# Altium schematic symbol library Texas_Instruments.SchLib: 53 symbols
Pins are listed as number, name and electrical type; pins without a type are passive.

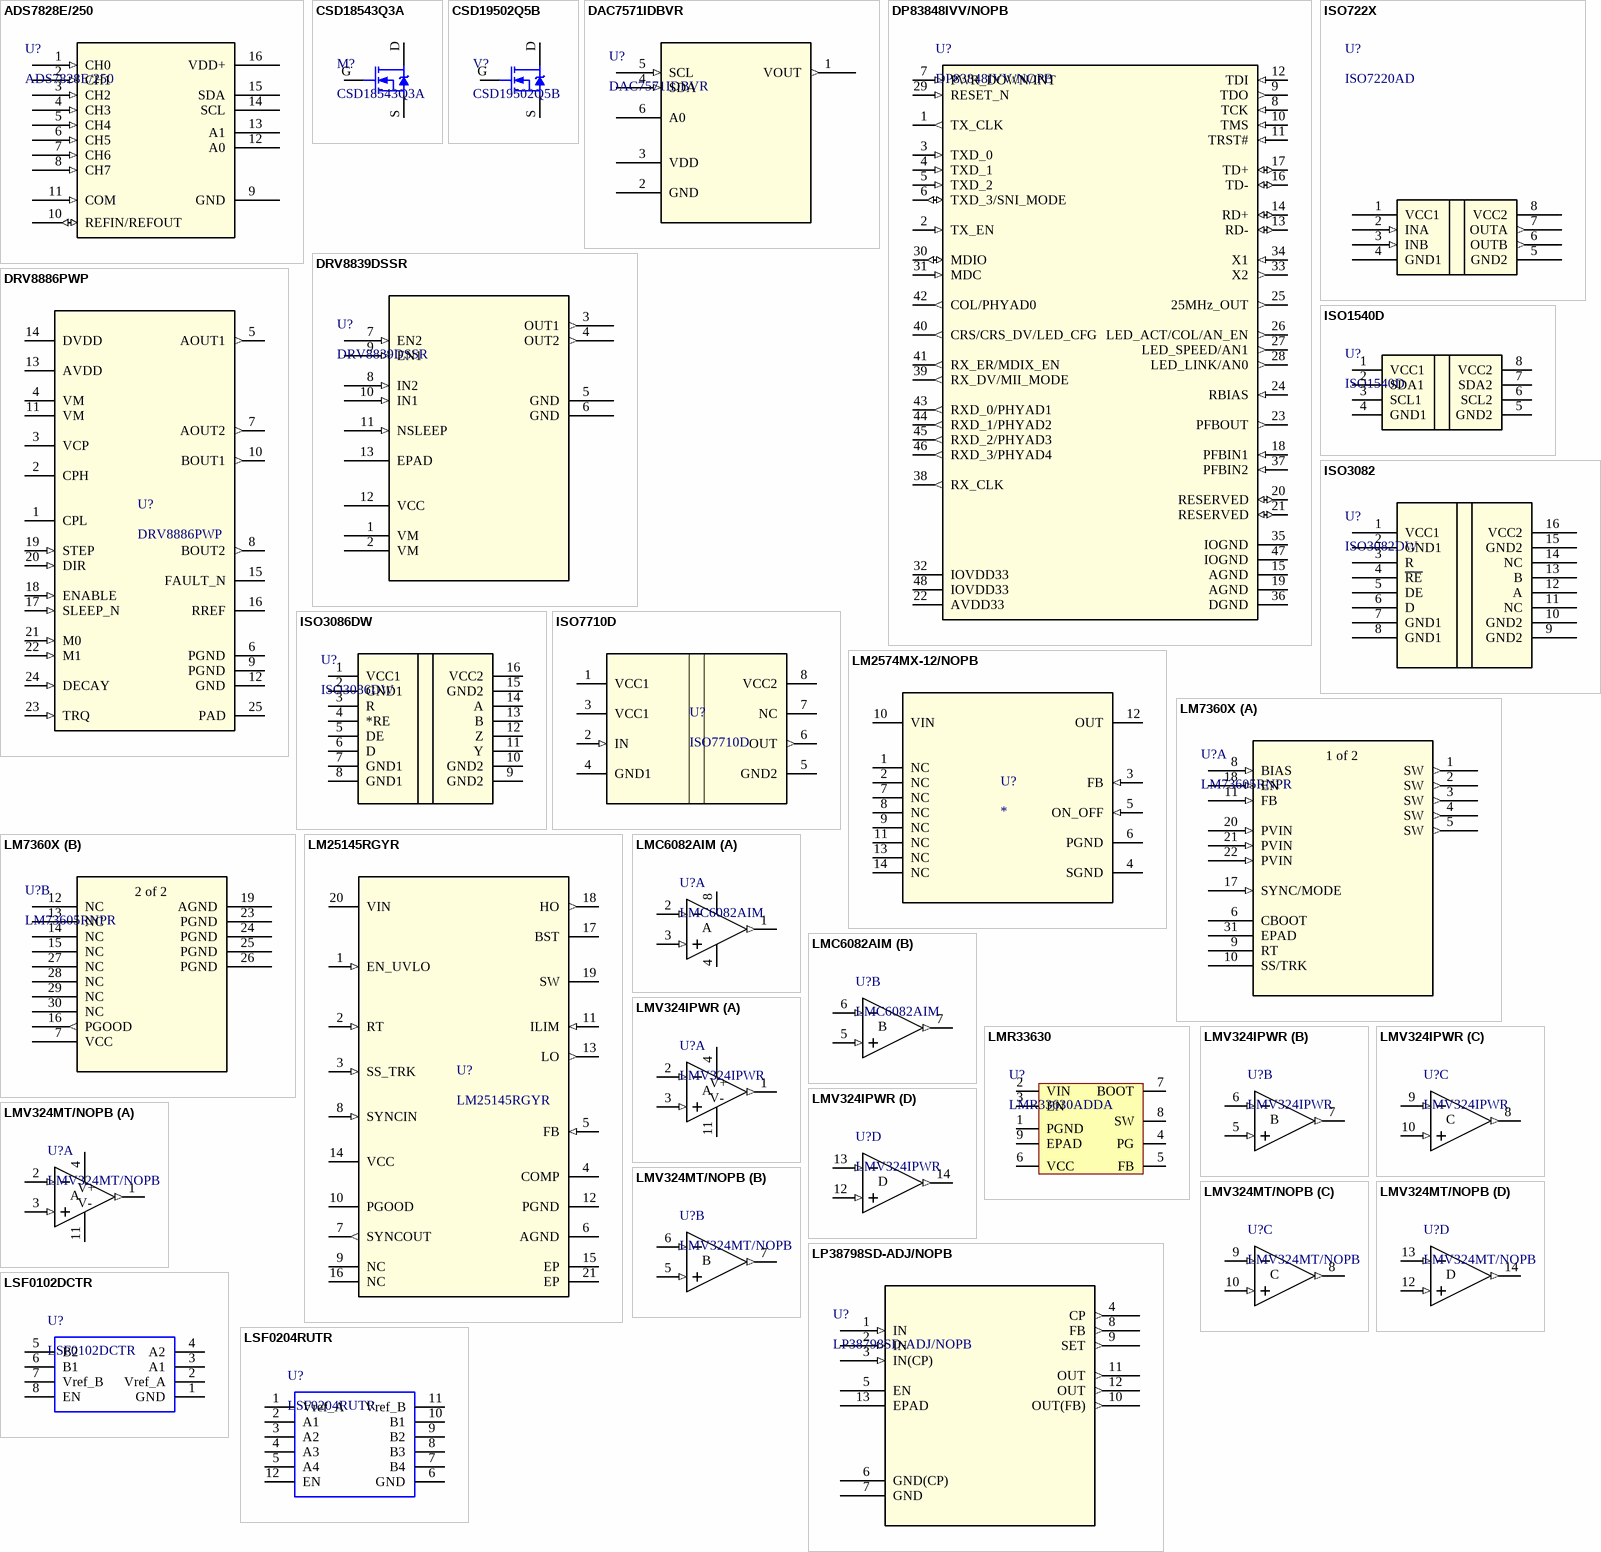
[diagram p0: symbols ADS7828E/250 to LSF0204RUTR]

## ADS7828E/250
designator U?
12-Bit, 8-Channel Sampling / ANALOG-TO-DIGITAL CONVERTER / with I2C™ Interface; Mfr_Name: Texas Instruments; Revised By: Z_xiao; Copyright: Copyright (C) 2022 Ultra Librarian. All rights reserved.; Manufacturer_Part_Number: ADS7828E/250; RefDes: RefDes; Type: DEV; ComponentLink1Description: Datasheet; ComponentLink1URL: https://www.ti.com.cn/cn/lit/ds/symlink/ads7828.pdf?ts=1654657696134&ref_url=https%253A%252F%252Fwww.ti.com.cn%252Fproduct%252Fzh-cn%252FADS7828%253FkeyMatch%253DADS7828%2526tisearch%253Dsearch-everything%2526usecase%253DGPN; Supplier 1: Digi-Key; Supplier 2: Mouser; Supplier 3: Digi-Key; Supplier Part Number 1: 296-12402-1-ND; Supplier Part Number 2: 595-ADS7828E/250G4; Supplier Part Number 3: 296-18368-ND
footprint PW16
footprint PW16-L
footprint PW16-M
pins: 1 CH0 (in), 2 CH1 (in), 3 CH2 (in), 4 CH3 (in), 5 CH4 (in), 6 CH5 (in), 7 CH6 (in), 8 CH7 (in), 9 GND (power), 10 REFIN/REFOUT (io), 11 COM (in), 12 A0, 13 A1, 14 SCL, 15 SDA, 16 VDD+ (power)

## CSD18543Q3A
designator M?
60-V N-Channel NexFET™ Power MOSFET; Revised By: Z_xiao; ComponentLink1Description: Datasheet
footprint DNH8
pins: D, G, S

## CSD19502Q5B
designator V?
80V N 通道 NexFET™ 功率金属氧化物半导体场效应晶体管 (MOSFET); Vendor: Texas Instruments; Revised By: Z_xiao; Manufacturer_Part_Number: CSD19502Q5B; Manufacturer_Name: Texas Instruments; RefDes: RefDes; TYPE: TYPE; Value: Value; ComponentLink1Description: Datasheet
footprint DNK8
pins: D, G, S

## DAC7571IDBVR
designator U?
+2.7 V to +5.5 V, I2C INTERFACE (RECEIVE ONLY), VOLTAGE OUTPUT,12-BIT DIGITAL-TO-ANALOG CONVERTER; Mfr_Name: Texas Instruments; Revised By: Z_xiao; Copyright: Copyright (C) 2021 Ultra Librarian. All rights reserved.; Manufacturer_Part_Number: DAC7571IDBVR; RefDes: RefDes; Type: DEV; ComponentLink1Description: Datasheet
footprint DBV6
footprint DBV6-L
footprint DBV6-M
pins: 1 VOUT (out), 2 GND (power), 3 VDD (power), 4 SDA (in), 5 SCL (in), 6 A0

## DP83848IVV/NOPB
designator U?
DP83848C/I/VYB/YB PHYTER™ QFP Single Port 10/100 Mb/s Ethernet / Physical Layer Transceiver; Mfr_Name: Texas Instruments; Manufacturer: NationalSemiconductor; PackageTopMarking: NSUZXYTTDP83848VVVBI; PowerWise: N; CompType: InterfaceIC; ComponentLink1DescBC: DP83848IDatasheet; ComponentLink2DescA4: DP83848IWebPage; ComponentLink3DescAC: VBH48APackagePage; Revised By: Z_xiao; Copyright: Copyright (C) 2022 Ultra Librarian. All rights reserved.; Manufacturer_Part_Number: DP83848IVV/NOPB; Published: 4-Dec-2008; DatasheetVersion: May-2008; PackageVersion: revEMay-2007; PackageReference: VBH48A; Publisher: AltiumLimited; PackageDescription: LQFP7x7x14mm48Lead05mmPitch; SUPPLIER_3: 1Farnell; SUPPLIER_2: PartNumb0C1286817; SUPPLIER_4: 2Farnell; Supplier: PartNumb0F1528380; PartNumber: DP83848IVV; RoHS: Y; PinCount: 48; ComponentLink3URL: http//wwwnationalcom/packaging/folders/vbh48ahtml; ComponentLink1URL: https://www.ti.com.cn/cn/lit/ds/symlink/dp83848i.pdf; Supplier 1: Mouser; Supplier Part Number 1: 926-DP83848IVV/NOPB; ComponentLink2URL: *; ComponentLink1Description: Datasheet
footprint LQFP48 7X7_L (48脚，体宽7x7mm，脚距0.5mm)
footprint LQFP48 7X7_M (48脚，体宽7x7mm，脚距0.5mm)
footprint LQFP48 7X7_N (48脚，体宽7x7mm，脚距0.5mm)
pins: 1 TX_CLK (out), 2 TX_EN (in), 3 TXD_0 (in), 4 TXD_1 (in), 5 TXD_2 (in), 6 TXD_3/SNI_MODE (io), 7 PWR_DOWN/INT (in), 8 TCK (in), 9 TDO (out), 10 TMS (in), 11 TRST# (in), 12 TDI (in), 13 RD- (io), 14 RD+ (io), 15 AGND (power), 16 TD- (io), 17 TD+ (io), 18 PFBIN1 (in), 19 AGND (power), 20 RESERVED (io), 21 RESERVED (io), 22 AVDD33 (power), 23 PFBOUT (out), 24 RBIAS (in), 25 25MHz_OUT (out), 26 LED_ACT/COL/AN_EN (out), 27 LED_SPEED/AN1 (out), 28 LED_LINK/AN0 (out), 29 RESET_N (in), 30 MDIO (io), 31 MDC (in), 32 IOVDD33 (power), 33 X2 (out), 34 X1 (in), 35 IOGND (power), 36 DGND (power), 37 PFBIN2 (in), 38 RX_CLK (out), 39 RX_DV/MII_MODE (out), 40 CRS/CRS_DV/LED_CFG (out), 41 RX_ER/MDIX_EN (out), 42 COL/PHYAD0 (out), 43 RXD_0/PHYAD1 (out), 44 RXD_1/PHYAD2 (out), 45 RXD_2/PHYAD3 (out), 46 RXD_3/PHYAD4 (out), 47 IOGND (power), 48 IOVDD33 (power)

## DRV8839DSSR
designator U?
双路½H 桥接电机驱动器; Vendor: Texas Instruments; Revised By: Z_xiao; Manufacturer_Part_Number: DRV8839DSSR; Copyright: Copyright (C) 2018 Accelerated Designs. All rights reserved; RefDes: RefDes; Type: DEV; ComponentLink1Description: Datasheet
footprint DSS12_P9X2
pins: 1 VM (power), 2 VM (power), 3 OUT1 (out), 4 OUT2 (out), 5 GND (power), 6 GND (power), 7 EN2 (in), 8 IN2 (in), 9 EN1 (in), 10 IN1 (in), 11 NSLEEP (in), 12 VCC (power), 13 EPAD

## DRV8886PWP
designator U?
集成电流检测功能的 2A 步进电机驱动器; PartNumber: DRV8886PWPR; Manufacturer: Texas Instruments; Revised By: Z_xiao; RefDes: RefDes; Type: DEV; Value: Value; Copyright: Copyright (C) 2018 Accelerated Designs. All rights reserved; ComponentLink1Description: Datasheet
footprint PWP0024B_NV_N
footprint PWP0024B_L
footprint PWP0024B_M
footprint PWP0024B_N
footprint PWP0024B_NV_M
footprint PWP0024B_NV_L
pins: 1 CPL, 2 CPH, 3 VCP, 4 VM (power), 5 AOUT1 (out), 6 PGND (power), 7 AOUT2 (out), 8 BOUT2 (out), 9 PGND (power), 10 BOUT1 (out), 11 VM (power), 12 GND (power), 13 AVDD (power), 14 DVDD (power), 15 FAULT_N (oc), 16 RREF, 17 SLEEP_N (in), 18 ENABLE (in), 19 STEP (in), 20 DIR (in), 21 M0 (in), 22 M1 (in), 23 TRQ (in), 24 DECAY (in), 25 PAD (power)

## ISO722X
designator U?, comment ISO7220AD
ISO722x 双通道数字隔离器; Mfr_Name: Texas Instruments; Revised By: Z_xiao; Copyright: Copyright (C) 2021 Ultra Librarian. All rights reserved.; Manufacturer_Part_Number: ISO7220AD; RefDes: RefDes; Type: DEV; ComponentLink1Description: Datasheet
footprint D8
footprint D8-L
footprint D8-M
pins: 1 VCC1 (power), 2 INA (in), 3 INB (in), 4 GND1 (power), 5 GND2 (power), 6 OUTB (out), 7 OUTA (out), 8 VCC2 (power)

## ISO1540D
designator U?
ISO154x 低功耗双向I2C 隔离器; Mfr_Name: Texas Instruments; PartNumber: ISO1540DR; CompType: IC; Revised By: Z_xiao; Type: DEV; RefDes: RefDes; Copyright: Copyright (C) 2021 Ultra Librarian. All rights reserved.; Manufacturer_Part_Number: ISO1540D; Alternate_PartNumber: ISO1540D; PackageReference: D0008A; MountType: SMT; RoHS: Y; Manufacturer: Texas Instruments; ComponentLink1Description: Datasheet
footprint D0008A_N
footprint D0008A_M
footprint D0008A_L
pins: 1 VCC1 (power), 2 SDA1, 3 SCL1, 4 GND1 (power), 5 GND2 (power), 6 SCL2, 7 SDA2, 8 VCC2 (power)

## ISO3082
designator U?, comment ISO3082DW
ISO308x Isolated 5-V Full- and Half-Duplex RS-485 Transceivers; Mfr_Name: Texas Instruments; Revised By: Z_xiao; Copyright: Copyright (C) 2021 Ultra Librarian. All rights reserved.; Manufacturer_Part_Number: ISO3082DW; RefDes: RefDes; Type: DEV; ComponentLink1Description: Datasheet; Supplier 1: Mouser; Supplier 2: Mouser; Supplier 3: Digi-Key; Supplier 4: Mouser; Supplier 5: Mouser; Supplier Part Number 5: 595-ISO3086DW; Supplier Part Number 4: 595-ISO3082DWG4; Supplier Part Number 3: 296-52646-1-ND; Supplier Part Number 2: 595-ISO3082DWR; Supplier Part Number 1: 595-ISO3082DW; ComponentLink1URL: https://www.ti.com.cn/cn/lit/ds/symlink/iso3082.pdf?ts=1654732171563&ref_url=https%253A%252F%252Fwww.ti.com.cn%252Fproduct%252Fcn%252FISO3082
footprint DW16
footprint DW16-L
footprint DW16-M
pins: 1 VCC1 (power), 2 GND1 (power), 3 R, 4 ~{RE}, 5 DE, 6 D, 7 GND1 (power), 8 GND1 (power), 9 GND2 (power), 10 GND2 (power), 11 NC, 12 A, 13 B, 14 NC, 15 GND2 (power), 16 VCC2 (power)

## ISO3086DW
designator U?
ISO308x Isolated 5-V Full- and Half-Duplex RS-485 Transceivers; Mfr_Name: Texas Instruments; Revised By: Z_xiao; Copyright: Copyright (C) 2022 Ultra Librarian. All rights reserved.; Manufacturer_Part_Number: ISO3086DW; RefDes: RefDes; Type: DEV; ComponentLink1Description: Datasheet; ComponentLink1URL: https://www.ti.com.cn/cn/lit/ds/symlink/iso3086.pdf?ts=1654743177672&ref_url=https%253A%252F%252Fwww.ti.com.cn%252Fproduct%252Fcn%252FISO3086; Supplier 1: Mouser; Supplier 2: Mouser; Supplier 3: Mouser; Supplier 4: Mouser; Supplier 5: Mouser; Supplier Part Number 1: 595-ISO3086DW; Supplier Part Number 2: 595-ISO3086DWR; Supplier Part Number 3: 595-ISO3086DWG4; Supplier Part Number 4: 595-ISO3086DWRG4; Supplier Part Number 5: 595-ISO3080DW
footprint DW16
footprint DW16-L
footprint DW16-M
pins: 1 VCC1 (power), 2 GND1 (power), 3 R, 4 *RE, 5 DE, 6 D, 7 GND1 (power), 8 GND1 (power), 9 GND2 (power), 10 GND2 (power), 11 Y, 12 Z, 13 B, 14 A, 15 GND2 (power), 16 VCC2 (power)

## ISO7710D
designator U?
EMC 性能优异的ISO7710 高速单通道增强型数字隔离器; PartNumber: ISO7710DR; Manufacturer: Texas Instruments; Revised By: Z_xiao; RefDes: RefDes; Type: DEV; Value: Value; Copyright: Copyright (C) 2021 Accelerated Designs. All rights reserved; ComponentLink1Description: Datasheet
footprint D0008B_N
footprint D0008B_HV
footprint D0008B_L
footprint D0008B_M
pins: 1 VCC1 (power), 2 IN (in), 3 VCC1 (power), 4 GND1 (power), 5 GND2 (power), 6 OUT (out), 7 NC, 8 VCC2 (power)

## LM2574MX-12/NOPB
designator U?
LM2574x SIMPLE SWITCHER® 0.5A 降压稳压器; PartNumber: LM2574MX-12/NOPB; Manufacturer: Texas Instruments; Revised By: Z_xiao; RefDes: RefDes; Type: DEV; Value: Value; Copyright: Copyright (C) 2021 Accelerated Designs. All rights reserved; ComponentLink1Description: DataSheet
footprint NPA0014B_N
footprint NPA0014B_M
footprint NPA0014B_L
pins: 1 NC, 2 NC, 3 FB (in), 4 SGND (power), 5 ON_OFF (in), 6 PGND (power), 7 NC, 8 NC, 9 NC, 10 VIN (power), 11 NC, 12 OUT (power), 13 NC, 14 NC

## LM7360X
designator U?, comment LM73605RNPR
3.5V 至 36V、5A 或 6A 同步 / 降压转换器; Manufacturer_Part_Number: LM73606RNPR; Vendor: Texas Instruments; SourceLibrary: TI_2019-05-21; Revised By: Z_xiao; Copyright: Copyright (C) 2018 Accelerated Designs. All rights reserved; RefDes: RefDes; Type: DEV; ComponentLink1Description: DataSheet
footprint RNP30_TEX-M
footprint RNP30_TEX-L
footprint RNP30_TEX
part A pins: 1 SW (out), 2 SW (out), 3 SW (out), 4 SW (out), 5 SW (out), 6 CBOOT, 8 BIAS (in), 9 RT, 10 SS/TRK, 11 FB (in), 17 SYNC/MODE (in), 18 EN (in), 20 PVIN (in), 21 PVIN (in), 22 PVIN (in), 31 EPAD
part B pins: 7 VCC (power), 12 NC, 13 NC, 14 NC, 15 NC, 16 PGOOD (out), 19 AGND (power), 23 PGND (power), 24 PGND (power), 25 PGND (power), 26 PGND (power), 27 NC, 28 NC, 29 NC, 30 NC
part A text: 1 of 2
part B text: 2 of 2

## LM25145RGYR
designator U?
具有宽占空比范围的 6V 至 42V 同步降压直流/直流控制器; Manufacturer: Texas Instruments; Revised By: Z_xiao; PartNumber: LM25145RGYR; RefDes: RefDes; TYPE: TYPE; Value: Value; Manufacturer_Part_Number: LM25145RGYR; Manufacturer_Name: Texas Instruments; ComponentLink1Description: Datasheet
footprint (VQFN(RGY)20)(RGY0020B)
pins: 1 EN_UVLO (in), 2 RT (in), 3 SS_TRK (in), 4 COMP, 5 FB (in), 6 AGND (power), 7 SYNCOUT (out), 8 SYNCIN (in), 9 NC, 10 PGOOD (oc), 11 ILIM (in), 12 PGND (power), 13 LO (out), 14 VCC (power), 15 EP (power), 16 NC, 17 BST, 18 HO (out), 19 SW (power), 20 VIN (power), 21 EP (power)

## LMC6082AIM
designator U?
LMC6082 Precision CMOS Dual Operational Amplifier; Mfr_Name: Texas Instruments; Manufacturer: NationalSemiconductor; Characteristics: LMC6082AIMPrecisionCMOSDualR-ROutputOpAmp; CompType: OpAmpIC; TaMin_C: -400; TaMax_C: 850; ComponentLink1DescBC: LMC6082Datasheet; ComponentLink2DescA4: LMC6082WebPage; ComponentLink3DescAC: M08APackageWebPage; Revised By: Z_xiao; Copyright: Copyright (C) 2021 Ultra Librarian. All rights reserved.; Manufacturer_Part_Number: LMC6082AIM; SymbolVersion: 2008-07-09; PartNumber: LMC6082AIM; PackageDescription: 8LeadSOIC; PackageReference: M08A_L; RoHS: O; ComponentLink1URL: http//wwwnationalcom/ds/LM/LMC6082pdf; ComponentLink2URL: http//wwwnationalcom/pf/LM/LMC6082html; ComponentLink3URL: http//wwwnationalcom/packaging/folders/m08ahtml; Version: B1608; LatestRevisionDate: 2009-03-16; LatestRevisionNote: MassUpdate; Publisher: NationalSemiconductor; Published: 2009-03-16; ComponentLink1Description: Datasheet
footprint SOP8_L (5*6*1.8mm（长宽高）)
footprint SOP8_M (5*6*1.8mm（长宽高）)
footprint SOP8_N (5*6*1.8mm（长宽高）)
part A pins: 1 OUT (out), 2 IN- (in), 3 IN+ (in), 4, 8
part B pins: 5 IN+ (in), 6 IN- (in), 7 OUT (out)
part A text: A
part B text: B

## LMR33630
designator U?, comment LMR33630ADDA
LMR33630 SIMPLE SWITCHER® 3.8V 至 36V、 3A / 同步降压转换器; Revised By: Z_xiao; ComponentLink1Description: DataSheet
footprint ESOP8_N (5*6*1.8mm（长宽高）)
footprint ESOP8_M (5*6*1.8mm（长宽高）)
footprint ESOP8_L (5*6*1.8mm（长宽高）)
pins: 1 PGND, 2 VIN, 3 EN, 4 PG, 5 FB, 6 VCC, 7 BOOT, 8 SW, 9 EPAD

## LMV324IPWR
designator U?
LMV3xx Low-Voltage Rail-to-Rail Output Operational Amplifier; Mfr_Name: Texas Instruments; Revised By: Z_xiao; Copyright: Copyright (C) 2022 Ultra Librarian. All rights reserved.; Manufacturer_Part_Number: LMV324IPWR; RefDes: RefDes; Type: DEV; ComponentLink1Description: Datasheet; ComponentLink1URL: https://www.ti.com.cn/cn/lit/ds/symlink/lmv324.pdf?ts=1655447202836&ref_url=https%253A%252F%252Fwww.ti.com.cn%252Fsitesearch%252Fzh-cn%252Fdocs%252Funiversalsearch.tsp%253FlangPref%253Dzh-CN%2526searchTerm%253DLMV324IDR%2526nr%253D11
footprint PW14
footprint PW14-L
footprint PW14-M
part A pins: 1 OUT (out), 2 IN- (in), 3 IN+ (in), 4 VDD, 11 VEE
part B pins: 5 IN+ (in), 6 IN- (in), 7 OUT (out)
part C pins: 8 OUT (out), 9 IN- (in), 10 IN+ (in)
part D pins: 12 IN+ (in), 13 IN- (in), 14 OUT (out)
part A text: V+; A; V-
part B text: B
part C text: C
part D text: D

## LMV324MT/NOPB
designator U?
LMV3xx-N/-Q1 单通道、双通道和四通道通用低电压轨至轨输出运算放大器; Mfr_Name: Texas Instruments; Manufacturer: NationalSemiconductor; Characteristics: LMV324MTGeneralPurposeLowVoltageR-ROut1MHzQuadOpAmp; CompType: OpAmpIC; TaMin_C: -400; TaMax_C: 850; ComponentLink1DescBC: LMV324Datasheet; ComponentLink2DescA4: LMV324WebPage; ComponentLink3DescAC: MTC14PackageWebPage; Revised By: Z_xiao; Copyright: Copyright (C) 2022 Ultra Librarian. All rights reserved.; Manufacturer_Part_Number: LMV324MT/NOPB; RefDes: RefDes; Type: DEV; SymbolVersion: 2008-07-09; PartNumber: LMV324MT; PackageDescription: 14LeadTSSOP; PackageReference: MTC14_L; RoHS: O; ComponentLink1URL: https://www.ti.com.cn/cn/lit/ds/symlink/lmv324-n.pdf?ts=1655100474900&ref_url=https%253A%252F%252Fwww.ti.com.cn%252Fproduct%252Fcn%252FLMV324-N%252Fpart-details%252FLMV324M%252FNOPB%253FkeyMatch%253DLMV324M; ComponentLink2URL: http//wwwnationalcom/pf/LM/LMV324html; ComponentLink3URL: http//wwwnationalcom/packaging/folders/mtc14html; Version: B1608; LatestRevisionDate: 2009-03-16; LatestRevisionNote: MassUpdate; Publisher: NationalSemiconductor; Published: 2009-03-16; ComponentLink1Description: Datasheet
footprint MTC14
footprint MTC14-L
footprint MTC14-M
part A pins: 1 OUT (out), 2 IN- (in), 3 IN+ (in), 4 VDD, 11 VEE
part B pins: 5 IN+ (in), 6 IN- (in), 7 OUT (out)
part C pins: 8 OUT (out), 9 IN- (in), 10 IN+ (in)
part D pins: 12 IN+ (in), 13 IN- (in), 14 OUT (out)
part A text: V+; A; V-
part B text: B
part C text: C
part D text: D

## LP38798SD-ADJ/NOPB
designator U?
LP38798 800mA 超低噪声、高PSRR LDO; SourceLibrary: TI_2015-1-5; Built_By: EMA_UL_Team; Vendor: Texas Instruments; Manufacturer_Part_Number: LP38798SD-ADJ/NOPB; Copyright: Copyright (C) 2021 Accelerated Designs. All rights reserved; RefDes: RefDes; Type: DEV
footprint DNT12_TEX
footprint DNT12_TEX-L
footprint DNT12_TEX-M
pins: 1 IN (in), 2 IN (in), 3 IN(CP) (in), 4 CP (out), 5 EN, 6 GND(CP) (power), 7 GND (power), 8 FB (out), 9 SET (out), 10 OUT(FB) (out), 11 OUT (out), 12 OUT (out), 13 EPAD

## LSF0102DCTR
designator U?
适用于开漏和推挽应用的 LSF010x 1/2/8 通道汽车双向多电压电平转换器; Mfr_Name: Texas Instruments; Revised By: Z_xiao; Type: DEV; RefDes: RefDes; Copyright: Copyright (C) 2022 Ultra Librarian. All rights reserved.; Manufacturer_Part_Number: LSF0102DCTR; ComponentLink1Description: Datasheet; ComponentLink1URL: https://www.ti.com.cn/cn/lit/ds/symlink/lsf0102.pdf?ts=1654830341801&ref_url=https%253A%252F%252Fwww.ti.com.cn%252Fproduct%252Fzh-cn%252FLSF0102%253FkeyMatch%253DLSF0102%2526tisearch%253Dsearch-everything%2526usecase%253DGPN; Supplier 1: Arrow Electronics; Supplier Part Number 1: LSF0102DCTR
footprint DCT0008A_N
footprint DCT0008A_M
footprint DCT0008A_L
pins: 1 GND, 2 Vref_A, 3 A1, 4 A2, 5 B2, 6 B1, 7 Vref_B, 8 EN

## LSF0204RUTR
designator U?
LSF0204x 适用于漏极开路和推挽应用的 4 位双向多电压电平转换器; Mfr_Name: Texas Instruments; CompType: IC; Revised By: Z_xiao; Type: DEV; RefDes: RefDes; Copyright: Copyright (C) 2022 Ultra Librarian. All rights reserved.; Manufacturer_Part_Number: LSF0204RUTR; Application_BuildNumber: *; PartNumber: LSF0204RUTR; PackageReference: RUT0012A; MountType: SMT; RoHS: Y; Manufacturer: Texas Instruments; ComponentLink1Description: Datasheet; ComponentLink1URL: https://www.ti.com.cn/cn/lit/ds/symlink/lsf0204.pdf?ts=1654828349105&ref_url=https%253A%252F%252Fwww.ti.com.cn%252Fproduct%252Fzh-cn%252FLSF0204%253FkeyMatch%253DLSF0204%2526tisearch%253Dsearch-everything%2526usecase%253DGPN; Supplier 1: Mouser; Supplier Part Number 1: 595-LSF0204RUTR
footprint RUT0012A
pins: 1 Vref_A, 2 A1, 3 A2, 4 A3, 5 A4, 6 GND, 7 B4, 8 B3, 9 B2, 10 B1, 11 Vref_B, 12 EN

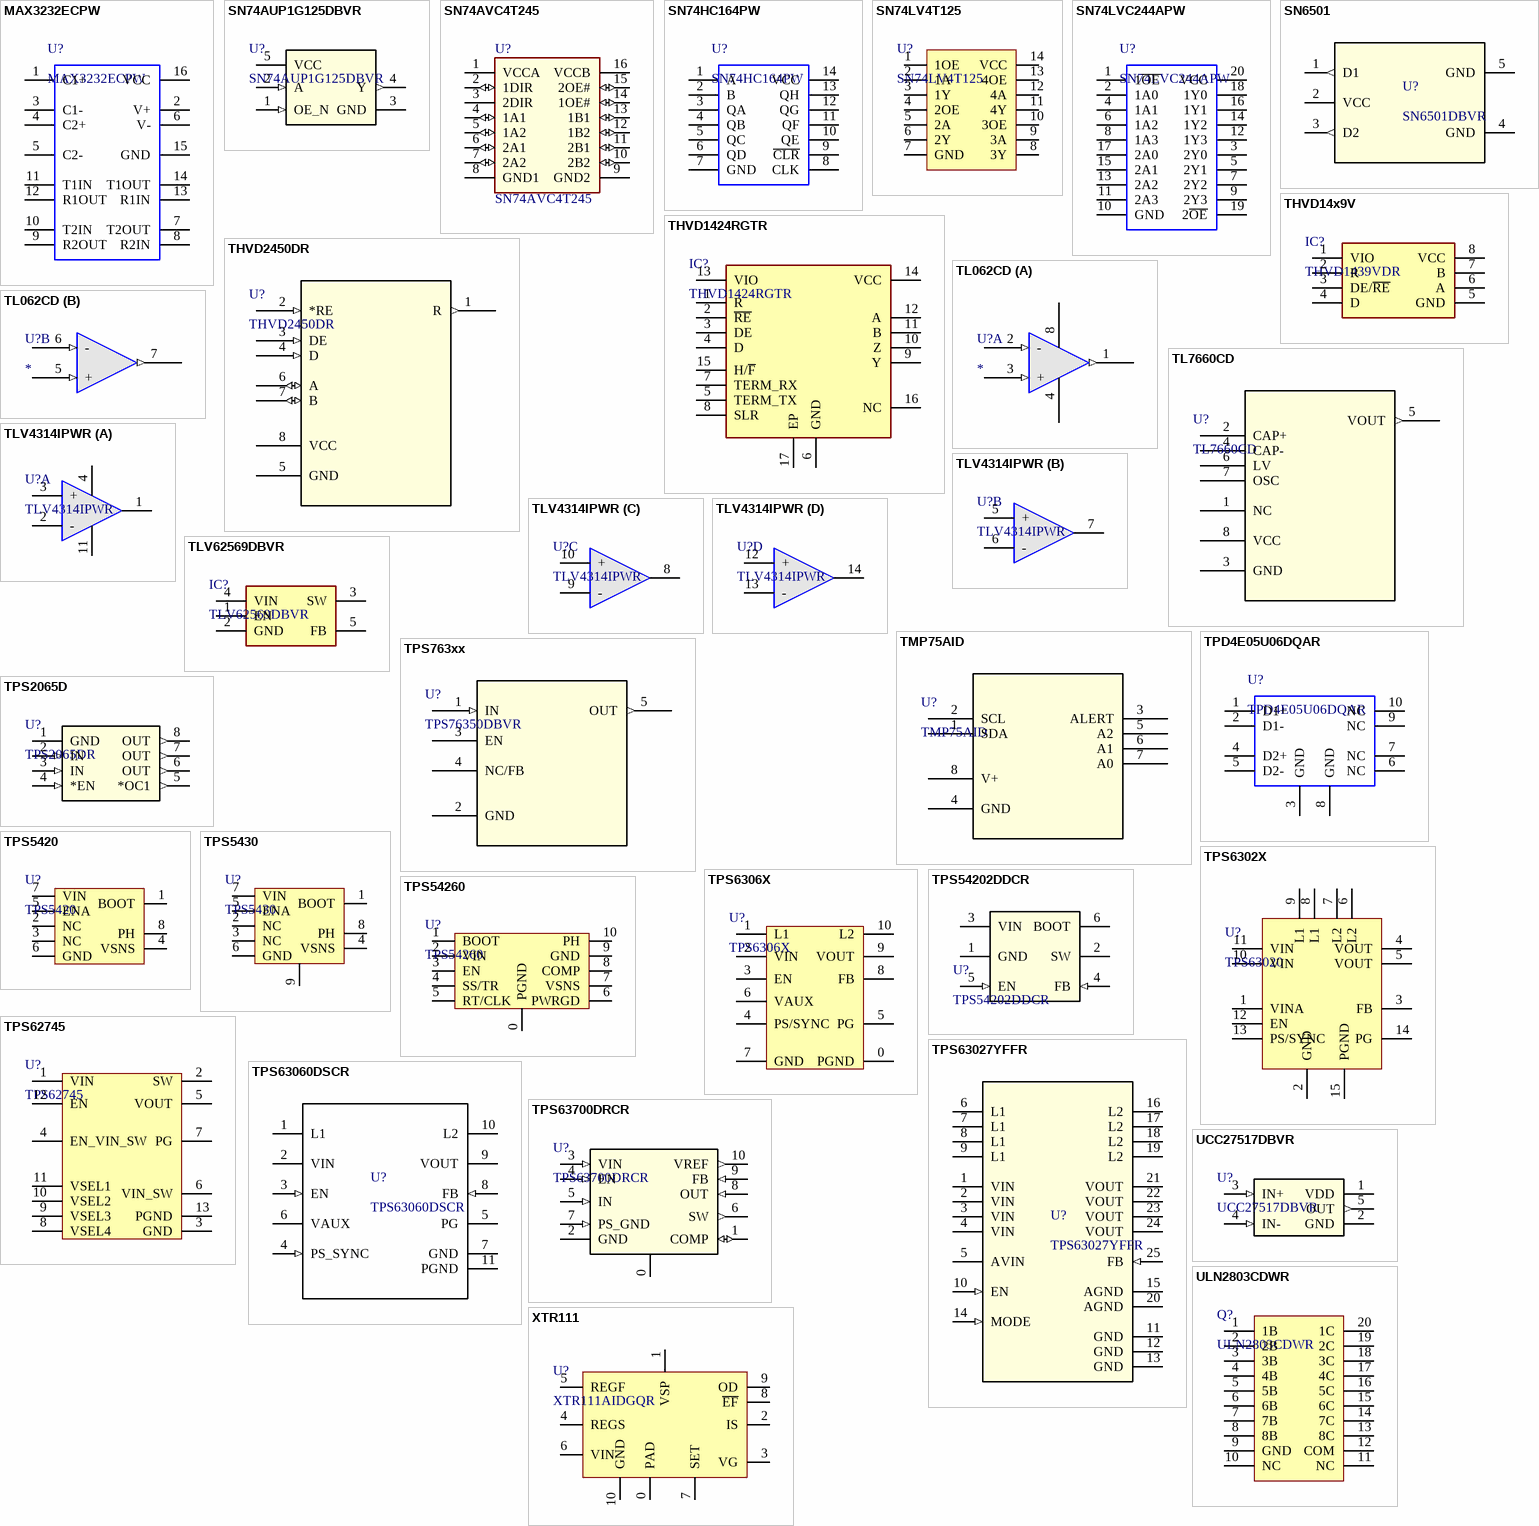
[diagram p1: symbols MAX3232ECPW to XTR111]

## MAX3232ECPW
designator U?
具有 ±15kV IEC ESD 保护功能的 MAX3232E 3V 至 5.5V 多通道 RS-232 线路驱动器和接收器; Mfr_Name: Texas Instruments; Revised By: Z_xiao; Copyright: Copyright (C) 2022 Ultra Librarian. All rights reserved.; Manufacturer_Part_Number: MAX3232ECPW; RefDes: RefDes; Type: DEV; ComponentLink1Description: Datasheet; ComponentLink1URL: https://www.ti.com.cn/cn/lit/ds/symlink/max3232e.pdf?ts=1655125486273&ref_url=https%253A%252F%252Fwww.ti.com.cn%252Fproduct%252Fcn%252FMAX3232E%253FkeyMatch%253D3232
footprint PW16
footprint PW16-L
footprint PW16-M
pins: 1 C1+, 2 V+, 3 C1-, 4 C2+, 5 C2-, 6 V-, 7 T2OUT, 8 R2IN, 9 R2OUT, 10 T2IN, 11 T1IN, 12 R1OUT, 13 R1IN, 14 T1OUT, 15 GND, 16 VCC

## SN74AUP1G125DBVR
designator U?
Single 0.8-V to 3.6-V low power buffer with 3-state outputs; Mfr_Name: Texas Instruments; Alternate_PartNumber: SN74AUP1G125DBVT; CompType: IC; Revised By: Z_xiao; Type: DEV; RefDes: RefDes; Copyright: Copyright (C) 2023 Ultra Librarian. All rights reserved.; Manufacturer_Part_Number: SN74AUP1G125DBVR; PartNumber: SN74AUP1G125DBVR; PackageReference: DBV0005A; MountType: SMT; RoHS: Y; Manufacturer: Texas Instruments; Supplier 1: Mouser; Supplier Part Number 1: 595-SN74AUP1G125DBVR
footprint DBV0005A_N
pins: 1 OE_N (in), 2 A (in), 3 GND (power), 4 Y (out), 5 VCC (power)

## SN74AVC4T245
designator U?
具有可配置电压转换和三态输出的 4 位双电源总线收发器; Revised By: Z_xiao; ComponentLink1Description: Datasheet
footprint SOP16_L (10.3*6.2*1.8mm（长宽高）)
footprint SOP16_M (10.3*6.2*1.8mm（长宽高）)
footprint SOP16_N (10.3*6.2*1.8mm（长宽高）)
pins: 1 VCCA (power), 2 1DIR (io), 3 2DIR, 4 1A1 (io), 5 1A2 (io), 6 2A1 (io), 7 2A2 (io), 8 GND1, 9 GND2, 10 2B2 (io), 11 2B1 (io), 12 1B2 (io), 13 1B1 (io), 14 1OE# (io), 15 2OE# (io), 16 VCCB (power)

## SN74HC164PW
designator U?
SNx4HC164 8-Bit Parallel-Out Serial Shift Registers; Mfr_Name: Texas Instruments; Revised By: Z_xiao; Copyright: Copyright (C) 2022 Ultra Librarian. All rights reserved.; Manufacturer_Part_Number: SN74HC164PW; RefDes: RefDes; Type: DEV; ComponentLink1Description: Datasheet; ComponentLink1URL: https://www.ti.com.cn/cn/lit/ds/symlink/sn74hc164.pdf?ts=1654800931129
footprint PW14
footprint PW14-L
footprint PW14-M
pins: 1 A, 2 B, 3 QA, 4 QB, 5 QC, 6 QD, 7 GND, 8 CLK, 9 ~{CLR}, 10 QE, 11 QF, 12 QG, 13 QH, 14 VCC

## SN74LV4T125
designator U?
单电源四缓冲区转换器门，具有三态输出CMOS 逻辑电平转换器; Revised By: Z_xiao; ComponentLink1Description: Datasheet
footprint S-PVQFN-N14
footprint TSSOP14_L (5*6.4*1mm（长宽高）)
footprint TSSOP14_M (5*6.4*1mm（长宽高）)
footprint TSSOP14_N (5*6.4*1mm（长宽高）)
pins: 1 1OE, 2 1A, 3 1Y, 4 2OE, 5 2A, 6 2Y, 7 GND, 8 3Y, 9 3A, 10 3OE, 11 4Y, 12 4A, 13 4OE, 14 VCC

## SN74LVC244APW
designator U?
SN74LVC244A 具有三态输出的八路缓冲器或驱动器; Mfr_Name: Texas Instruments; Revised By: Z_xiao; Copyright: Copyright (C) 2022 Ultra Librarian. All rights reserved.; Manufacturer_Part_Number: SN74LVC244APW; RefDes: RefDes; Type: DEV; ComponentLink1Description: Datasheet; ComponentLink1URL: https://www.ti.com.cn/cn/lit/ds/symlink/sn74lvc244a.pdf?ts=1654844630213&ref_url=https%253A%252F%252Fwww.ti.com.cn%252Fproduct%252Fzh-cn%252FSN74LVC244A%253FkeyMatch%253DSN74LVC244A%2526tisearch%253Dsearch-everything%2526usecase%253DGPN
footprint PW20
footprint PW20-L
footprint PW20-M
pins: 1 1~{OE}, 2 1A0, 3 2Y0, 4 1A1, 5 2Y1, 6 1A2, 7 2Y2, 8 1A3, 9 2Y3, 10 GND, 11 2A3, 12 1Y3, 13 2A2, 14 1Y2, 15 2A1, 16 1Y1, 17 2A0, 18 1Y0, 19 2~{OE}, 20 VCC

## SN6501
designator U?, comment SN6501DBVR
SN6501 用于隔离电源的变压器驱动器; Mfr_Name: Texas Instruments; Alternate_PartNumber: SN6501DBVT; CompType: IC; Type: DEV; RefDes: RefDes; Copyright: Copyright (C) 2021 Ultra Librarian. All rights reserved.; Manufacturer_Part_Number: SN6501DBVR; PartNumber: SN6501DBVR; PackageReference: DBV0005A; MountType: SMT; RoHS: Y; Manufacturer: Texas Instruments
footprint DBV0005A_N
footprint DBV0005A_M
footprint DBV0005A_L
pins: 1 D1 (out), 2 VCC (power), 3 D2 (out), 4 GND (power), 5 GND (power)

## THVD14x9V
designator IC?, comment THVD1439VDR
THVD14x9x 具有 4kV 浪涌保护功能和 1.8V VIO 的 3V 至 5.5V RS-485 收发器; Manufacturer_Name: Texas Instruments; Datasheet Link: https://www.ti.com/lit/ds/symlink/thvd1439.pdf?ts=1633978341702&ref_url=https%253A%252F%252Fwww.ti.com%252Fproduct%252FTHVD1439; Height: 1.75mm; Manufacturer_Part_Number: THVD1439VDR; Mouser Part Number: 595-THVD1439VDR; Mouser Price/Stock: https://www.mouser.co.uk/ProductDetail/Texas-Instruments/THVD1439VDR?qs=A6eO%252BMLsxmTh8OKfR5%2FZSA%3D%3D; Arrow Part Number: THVD1439VDR; Arrow Price/Stock: https://www.arrow.com/en/products/thvd1439vdr/texas-instruments?region=nac
footprint SOP8_L (5*6*1.8mm（长宽高）)
footprint SOP8_M (5*6*1.8mm（长宽高）)
footprint SOP8_N (5*6*1.8mm（长宽高）)
pins: 1 VIO, 2 R, 3 DE/~{RE}, 4 D, 5 GND, 6 A, 7 B, 8 VCC

## THVD1424RGTR
designator IC?
THVD1424 3-V to 5.5-V RS-485 Transceiver With Slew Rate Control, Integrated / 120-Ohm Switchable Termination Resistor and Duplex Switching; Manufacturer_Name: Texas Instruments; Datasheet Link: https://www.ti.com/lit/ds/symlink/thvd1424.pdf?ts=1680263926066&ref_url=https%253A%252F%252Fwww.ti.com%252Fproduct%252FTHVD1424%252Fpart-details%252FTHVD1424RGTR; Height: 1mm; Manufacturer_Part_Number: THVD1424RGTR; Mouser Part Number: 595-THVD1424RGTR; Mouser Price/Stock: https://www.mouser.co.uk/ProductDetail/Texas-Instruments/THVD1424RGTR?qs=Y0Uzf4wQF3mE4SAwEC4Vhg%3D%3D; Arrow Part Number: THVD1424RGTR; Arrow Price/Stock: https://www.arrow.com/en/products/thvd1424rgtr/texas-instruments?utm_currency=USD&region=nac
footprint QFN50P300X300X100-17N-D
pins: 1 R, 2 ~{RE}, 3 DE, 4 D, 5 TERM_TX, 6 GND, 7 TERM_RX, 8 SLR, 9 Y, 10 Z, 11 B, 12 A, 13 VIO, 14 VCC, 15 H/~{F}, 16 NC, 17 EP

## THVD2450DR
designator U?
具有IEC ESD 保护功能的THVD24x0 ±70V 故障保护3.3V 至5V RS-485收发器; SourceLibrary: TI_2019-11-11; Built_By: EMA_Jessica; Vendor: Texas Instruments; Revised By: Z_xiao; Copyright: Copyright (C) 2018 Accelerated Designs. All rights reserved; Manufacturer_Part_Number: THVD2450DR; RefDes: RefDes; Type: DEV; ComponentLink1Description: Datasheet
footprint D8_TEX
footprint D8_TEX-L
footprint D8_TEX-M
pins: 1 R (out), 2 *RE (in), 3 DE (in), 4 D (in), 5 GND (power), 6 A (io), 7 B (io), 8 VCC (power)

## TL062CD
designator U?
Dual Low-Power JFET-Input General-Purpose Operational Amplifier; Manufacturer: Texas Instruments; GENERIC_PART_NUMBER: TL062; INDUSTRY_STD_PKG_TYPE: SOIC; FAMILY_NAME: STANDARD LINEAR AMPLIFIER; PIN_COUNT: 8; PACKAGE_DESIGNATOR: D; Revised By: Z_xiao; Datasheet_URL: http://www.ti.com/lit/gpn/TL062; Copyright: Copyright (C) 2021 Accelerated Designs. All rights reserved; RefDes: RefDes; Type: DEV; ComponentLink1Description: Datasheet
footprint D8
footprint D8-L
footprint D8-M
part A pins: 1 1OUT (out), 2 - (in), 3 + (in), 4 VEE (power), 8 VCC (power)
part B pins: 5 + (in), 6 - (in), 7 2OUT (out)

## TL7660CD
designator U?
CMOS Voltage Converter; Manufacturer: Texas Instruments; GENERIC_PART_NUMBER: TL7660; INDUSTRY_STD_PKG_TYPE: SOIC; FAMILY_NAME: LOW POWER; PIN_COUNT: 8; PACKAGE_DESIGNATOR: D; Revised By: Z_xiao; Datasheet_URL: http://www.ti.com/lit/gpn/TL7660; Vendor: Texas Instruments; Manufacturer_Part_Number: TL7660CD; Copyright: Copyright (C) 2021 Accelerated Designs. All rights reserved; RefDes: RefDes; Type: DEV; ComponentLink1Description: Datasheet
footprint D8
footprint D8-L
footprint D8-M
pins: 1 NC, 2 CAP+, 3 GND (power), 4 CAP-, 5 VOUT (out), 6 LV, 7 OSC, 8 VCC (power)

## TLV4314IPWR
designator U?
TLVx314 3MHz、低功耗、 / 内部EMI 滤波器、RRIO 运算放大器; SourceLibrary: TI_2019-05-11; Built_By: EMA_Molly; Vendor: Texas Instruments; Revised By: Z_xiao; Copyright: Copyright (C) 2018 Accelerated Designs. All rights reserved; Manufacturer_Part_Number: TLV4314IPWR; RefDes: RefDes; Type: DEV; ComponentLink1Description: Datasheet
footprint PW14_TEX
footprint PW14_TEX-L
footprint PW14_TEX-M
part A pins: 1 OUT1, 2 -, 3 +, 4 V+ (power), 11 V- (power)
part B pins: 5 +, 6 -, 7 OUT1
part C pins: 8 OUT1, 9 -, 10 +
part D pins: 12 +, 13 -, 14 OUT1

## TLV62569DBVR
designator IC?
TLV62569采采用用SOT封封装装的的2A高高效效同同步步降降压压转转换换器; Manufacturer_Name: Texas Instruments; Datasheet Link: http://www.ti.com/lit/gpn/tlv62569; Height: 1.45mm; Manufacturer_Part_Number: TLV62569DBVR; Mouser Part Number: 595-TLV62569DBVR; Mouser Price/Stock: https://www.mouser.co.uk/ProductDetail/Texas-Instruments/TLV62569DBVR?qs=0C8XhJW8e4oaylc%252BzBrCmA%3D%3D; Arrow Part Number: TLV62569DBVR; Arrow Price/Stock: https://www.arrow.com/en/products/tlv62569dbvr/texas-instruments?utm_currency=USD&region=nac
footprint SOT95P280X145-5N
pins: 1 EN, 2 GND, 3 SW, 4 VIN, 5 FB

## TMP75AID
designator U?
TMPx75 Temperature Sensor With I2C and SMBus Interface in Industry Standard LM75 / Form Factor and Pinout; Mfr_Name: Texas Instruments; Revised By: Z_xiao; Copyright: Copyright (C) 2021 Ultra Librarian. All rights reserved.; Manufacturer_Part_Number: TMP75AID; RefDes: RefDes; Type: DEV; ComponentLink1Description: Datasheet
footprint D8
footprint D8-L
footprint D8-M
pins: 1 SDA, 2 SCL, 3 ALERT, 4 GND (power), 5 A2, 6 A1, 7 A0, 8 V+ (power)

## TPD4E05U06DQAR
designator U?
TPDxE05U06 适用于超高速（最高可达 6GBPS）接口的 / 单通道、4 通道、6 通道 ESD 保护器件; Mfr_Name: Texas Instruments; CompType: IC; Revised By: Z_xiao; Type: DEV; RefDes: RefDes; Copyright: Copyright (C) 2022 Ultra Librarian. All rights reserved.; Manufacturer_Part_Number: TPD4E05U06DQAR; Application_BuildNumber: *; PartNumber: TPD4E05U06DQAR; PackageReference: DQA0010A; MountType: SMT; RoHS: Y; Manufacturer: Texas Instruments; ComponentLink1Description: Datasheet; ComponentLink1URL: https://www.ti.com.cn/cn/lit/ds/symlink/tpd4e05u06.pdf?ts=1654824401402
footprint DQA0010A
pins: 1 D1+, 2 D1-, 3 GND, 4 D2+, 5 D2-, 6 NC, 7 NC, 8 GND, 9 NC, 10 NC

## TPS763xx
designator U?, comment TPS76350DBVR
TPS763 低功耗150mA 低压降线性稳压器; Mfr_Name: Texas Instruments; Manufacturer_Part_Number: TPS76301DBVR; Copyright: Copyright (C) 2021 Ultra Librarian. All rights reserved.; RefDes: RefDes; Type: DEV
footprint DBV5
footprint DBV5-L
footprint DBV5-M
pins: 1 IN (in), 2 GND (power), 3 EN, 4 NC/FB, 5 OUT (out)

## TPS2065D
designator U?, comment TPS2065DR
限流、配电开关; Mfr_Name: Texas Instruments; Revised By: Z_xiao; Copyright: Copyright (C) 2023 Ultra Librarian. All rights reserved.; Manufacturer_Part_Number: TPS2065D; RefDes: RefDes; Type: DEV
footprint D8
footprint D8-L
footprint D8-M
pins: 1 GND (power), 2 IN (in), 3 IN (in), 4 *EN (in), 5 *OC1 (out), 6 OUT (out), 7 OUT (out), 8 OUT (out)

## TPS5420
designator U?
2-A，宽输入范围，降压变换器; Revised By: Z_xiao; ComponentLink1Description: DataSheet
footprint SOP8_L (5*6*1.8mm（长宽高）)
footprint SOP8_M (5*6*1.8mm（长宽高）)
footprint SOP8_N (5*6*1.8mm（长宽高）)
pins: 1 BOOT, 2 NC, 3 NC, 4 VSNS, 5 ENA, 6 GND, 7 VIN, 8 PH

## TPS5430
designator U?
TPS543x 3-A，宽输入范围，降压转换器; Revised By: Z_xiao; ComponentLink1Description: DataSheet
footprint ESOP8_L (5*6*1.8mm（长宽高）)
footprint ESOP8_M (5*6*1.8mm（长宽高）)
footprint ESOP8_N (5*6*1.8mm（长宽高）)
pins: 1 BOOT, 2 NC, 3 NC, 4 VSNS, 5 ENA, 6 GND, 7 VIN, 8 PH, 9

## TPS6302X
designator U?, comment TPS63020
具有4A 开关的TPS6302x 高效率单电感器降压/升压转换器
footprint TPS6302X
pins: 1 VINA, 2 GND, 3 FB, 4 VOUT, 5 VOUT, 6 L2, 7 L2, 8 L1, 9 L1, 10 VIN, 11 VIN, 12 EN, 13 PS/SYNC, 14 PG, 15 PGND

## TPS6306X
designator U?
开关电流为2A 的高输入电压降压- 升压转换器
footprint TPS6306X
pins: 0 PGND, 1 L1, 2 VIN, 3 EN, 4 PS/SYNC, 5 PG, 6 VAUX, 7 GND, 8 FB, 9 VOUT, 10 L2

## TPS54202DDCR
designator U?
TPS54202 4.5V 至 28V 输入、2A 输出、EMI 友好型同步降压转换器; Mfr_Name: Texas Instruments; Revised By: Z_xiao; Type: DEV; RefDes: RefDes; Copyright: Copyright (C) 2022 Ultra Librarian. All rights reserved.; Manufacturer_Part_Number: TPS54202DDCR; ComponentLink1Description: DataSheet; ComponentLink1URL: https://www.ti.com.cn/cn/lit/ds/symlink/tps54202.pdf?ts=1666328102946&ref_url=https%253A%252F%252Fwww.ti.com.cn%252Fproduct%252Fzh-cn%252FTPS54202%253FkeyMatch%253DTPS54202DDCR%2526tisearch%253Dsearch-everything%2526usecase%253DOPN
footprint DDC0006A_N
footprint DDC0006A_M
footprint DDC0006A_L
pins: 1 GND (power), 2 SW (power), 3 VIN (power), 4 FB (in), 5 EN (in), 6 BOOT (power)

## TPS54260
designator U?
具有集成高侧MOSFET 的 / 60V、2.5A 降压稳压器; Revised By: Z_xiao; ComponentLink1Description: DataSheet
footprint MSOP10_M - 0 (塑封体长3mm，宽3mm，脚距0.5)
pins: 0 PGND, 1 BOOT, 2 VIN, 3 EN, 4 SS/TR, 5 RT/CLK, 6 PWRGD, 7 VSNS, 8 COMP, 9 GND, 10 PH

## TPS62745
designator U?
面向低功耗无线应用的双节超低 IQ 降压转换器; Revised By: Z_xiao; ComponentLink1Description: DataSheet
footprint TPS62745
pins: 1 VIN, 2 SW, 3 GND, 4 EN_VIN_SW, 5 VOUT, 6 VIN_SW, 7 PG, 8 VSEL4, 9 VSEL3, 10 VSEL2, 11 VSEL1, 12 EN, 13 PGND

## TPS63027YFFR
designator U?
TPS63027 高电流、高效单电感器降压-升压转换器; Manufacturer: Texas Instruments; PartNumber: TPS63027YFFR; RefDes: RefDes; Type: DEV; Value: Value; Copyright: Copyright (C) 2018 Accelerated Designs. All rights reserved
footprint YFF0025AFAF
pins: 1 VIN (power), 2 VIN (power), 3 VIN (power), 4 VIN (power), 5 AVIN (power), 6 L1, 7 L1, 8 L1, 9 L1, 10 EN (in), 11 GND (power), 12 GND (power), 13 GND (power), 14 MODE (in), 15 AGND (power), 16 L2, 17 L2, 18 L2, 19 L2, 20 AGND (power), 21 VOUT (power), 22 VOUT (power), 23 VOUT (power), 24 VOUT (power), 25 FB (in)

## TPS63060DSCR
designator U?
开关电流为2A 的高输入电压降压- 升压转换器; Manufacturer: Texas Instruments; CompType: IC; PIN_COUNT: 11; Application_BuildNumber: *; PartNumber: TPS63060DSC; PackageReference: DSC0010E; MountType: SMT; RoHS: Y; RefDes: RefDes; Type: DEV; Value: Value; Copyright: Copyright (C) 2018 Accelerated Designs. All rights reserved
footprint DSC0010E
pins: 1 L1 (power), 2 VIN (power), 3 EN (in), 4 PS_SYNC (in), 5 PG (oc), 6 VAUX, 7 GND (power), 8 FB (in), 9 VOUT (power), 10 L2 (power), 11 PGND (power)

## TPS63700DRCR
designator U?
TPS63700 DC-DC Inverter; Mfr_Name: Texas Instruments; Revised By: Z_xiao; Copyright: Copyright (C) 2021 Ultra Librarian. All rights reserved.; Manufacturer_Part_Number: TPS63700DRCR; RefDes: RefDes; Type: DEV; ComponentLink1Description: Datasheet
footprint DRC10_2P4X1P65
pins: 0, 1 COMP (io), 2 GND (power), 3 VIN (in), 4 EN (in), 5 IN (in), 6 SW (out), 7 PS_GND (in), 8 OUT (in), 9 FB (in), 10 VREF (out)

## UCC27517DBVR
designator U?
UCC2751x 单通道、高速、低侧栅极驱动器（具有 4A 峰值拉电流和 4A 峰值灌电流）; Mfr_Name: Texas Instruments; Revised By: Z_xiao; Copyright: Copyright (C) 2021 Ultra Librarian. All rights reserved.; Manufacturer_Part_Number: UCC27517DBVR; RefDes: RefDes; Type: DEV; ComponentLink1Description: Datasheet; ComponentLink1URL: https://www.ti.com.cn/cn/lit/ds/symlink/ucc27517.pdf
footprint DBV5_TEX
footprint DBV5_TEX-L
footprint DBV5_TEX-M
pins: 1 VDD (power), 2 GND (power), 3 IN+ (in), 4 IN- (in), 5 OUT (out)

## ULN2803CDWR
designator Q?
No Description Available; Mfr_Name: Texas Instruments; Type: DEV; Revised By: Z_xiao; Copyright: Copyright (C) 2024 Ultra Librarian. All rights reserved.; Manufacturer_Part_Number: ULN2803CDWR; RefDes: RefDes
footprint SOIC20_DW_TEX
footprint SOIC20_DW_TEX-L
footprint SOIC20_DW_TEX-M
pins: 1 1B, 2 2B, 3 3B, 4 4B, 5 5B, 6 6B, 7 7B, 8 8B, 9 GND, 10 NC, 11 NC, 12 COM, 13 8C, 14 7C, 15 6C, 16 5C, 17 4C, 18 3C, 19 2C, 20 1C

## XTR111
designator U?, comment XTR111AIDGQR
Precision Voltage-to-Current Converter/Transmitter; Revised By: Z_xiao; ComponentLink1Description: Datasheet; ComponentLink1URL: https://www.ti.com.cn/
footprint DSG(S-PDSO-G10)
pins: 0 PAD, 1 VSP, 2 IS, 3 VG, 4 REGS, 5 REGF, 6 VIN, 7 SET, 8 ~{EF}, 9 OD, 10 GND